# Altium footprint library TGR12x7x5.PcbLib: 1 footprints
Each footprint in its own frame and in the unit in brackets; x right, y up, seen from the top. Pads: shape width x height; smd on the part's side, far side on the other; paste and mask are expansions set on the pad; w line width, h text height; cw(c..) or ccw(c..) is an arc to the next point about the centre after c.
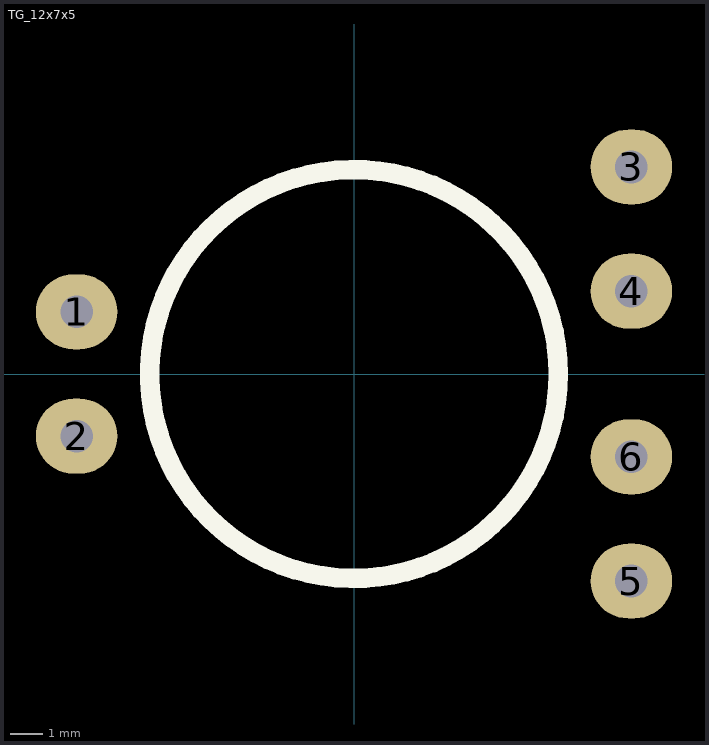
[diagram p0: the footprint, top view; thin cyan lines are the x and y axes]

## TG_12x7x5 [mm]
pads (6):
  oval 2.5x2.3 hole 1: 1(-8.509,1.905) 2(-8.509,-1.905) 3(8.509,6.35) 4(8.509,2.54) 5(8.509,-6.35) 6(8.509,-2.54)
Top Overlay:
  circle w0.6: c0,0 r6.269
Bottom Overlay:
  circle w0.254: c0,0 r6.488
3D body "1205_ТГР_13х5.STEP": height 9.48, standoff -1.83, extent -8.85,-6.7 8.85,6.7